# Altium schematic symbol library SCH - DRIVER - LED - TI TPS61165-Q1_DBV_6.SchLib: 1 symbol
Pins are listed as number, name and electrical type; pins without a type are passive.

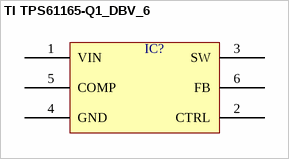
[diagram p0: symbol TI TPS61165-Q1_DBV_6]

## TI TPS61165-Q1_DBV_6
designator IC?  (value not drawn)
pins: 1 VIN, 2 CTRL, 3 SW, 4 GND, 5 COMP, 6 FB